# Altium footprint library ANT3216LL00R2400A.PcbLib: 1 footprints
Each footprint in its own frame and in the unit in brackets; x right, y up, seen from the top. Pads: shape width x height; smd on the part's side, far side on the other; paste and mask are expansions set on the pad; w line width, h text height; cw(c..) or ccw(c..) is an arc to the next point about the centre after c.
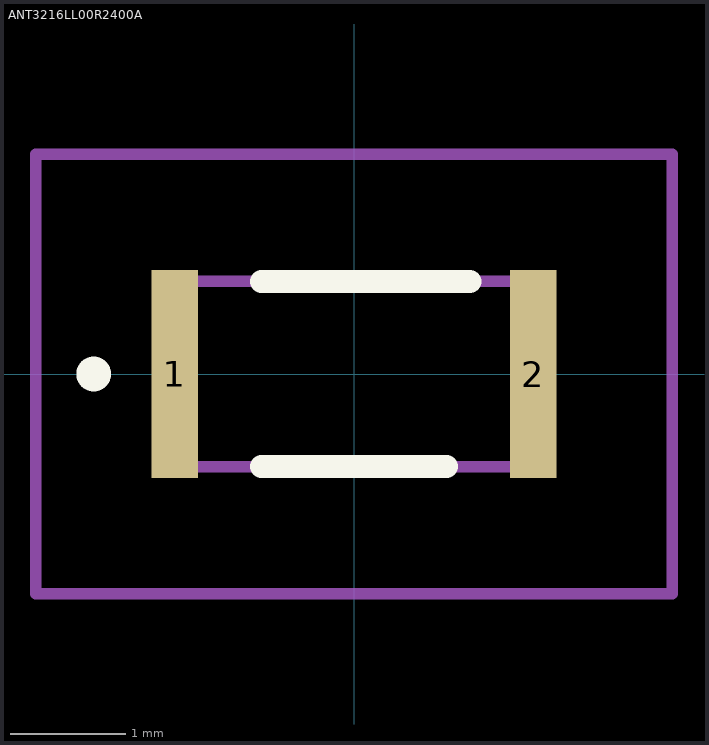
[diagram p0: the footprint, top view; thin cyan lines are the x and y axes]

## ANT3216LL00R2400A [mm]
pads (2):
  rect 0.4x1.8 smd: 1(-1.55,0) 2(1.55,0)
Top Overlay:
  lines w0.2: -2.3,0 -2.3,0 ; -2.3,0 ccw(c-2.25,0) -2.2,0 ; -2.3,0 cw(c-2.25,0) -2.2,0 ; -2.3,0 -2.3,0 ; -2.3,0 ccw(c-2.25,0) -2.2,0 ; -2.2,0 -2.2,0 ; -0.8,-0.8 0.8,-0.8 ; -0.8,-0.8 0.8,-0.8 ; -0.8,-0.8 -0.8,-0.8 ; -0.8,0.8 1,0.8 ; -0.8,0.8 1,0.8 ; -0.8,0.8 -0.8,0.8 ; 0.8,-0.8 0.8,-0.8 ; 1,0.8 1,0.8
Mechanical 15:
  lines w0.1: -1.6,-0.8 1.6,-0.8 1.6,0.8 -1.6,0.8 -1.6,-0.8
Mechanical 20:
  lines w0.1: -2.75,-1.9 2.75,-1.9 2.75,1.9 -2.75,1.9 -2.75,-1.9